# Altium schematic symbol library Schlib1.SchLib: 46 symbols
Pins are listed as number, name and electrical type; pins without a type are passive.

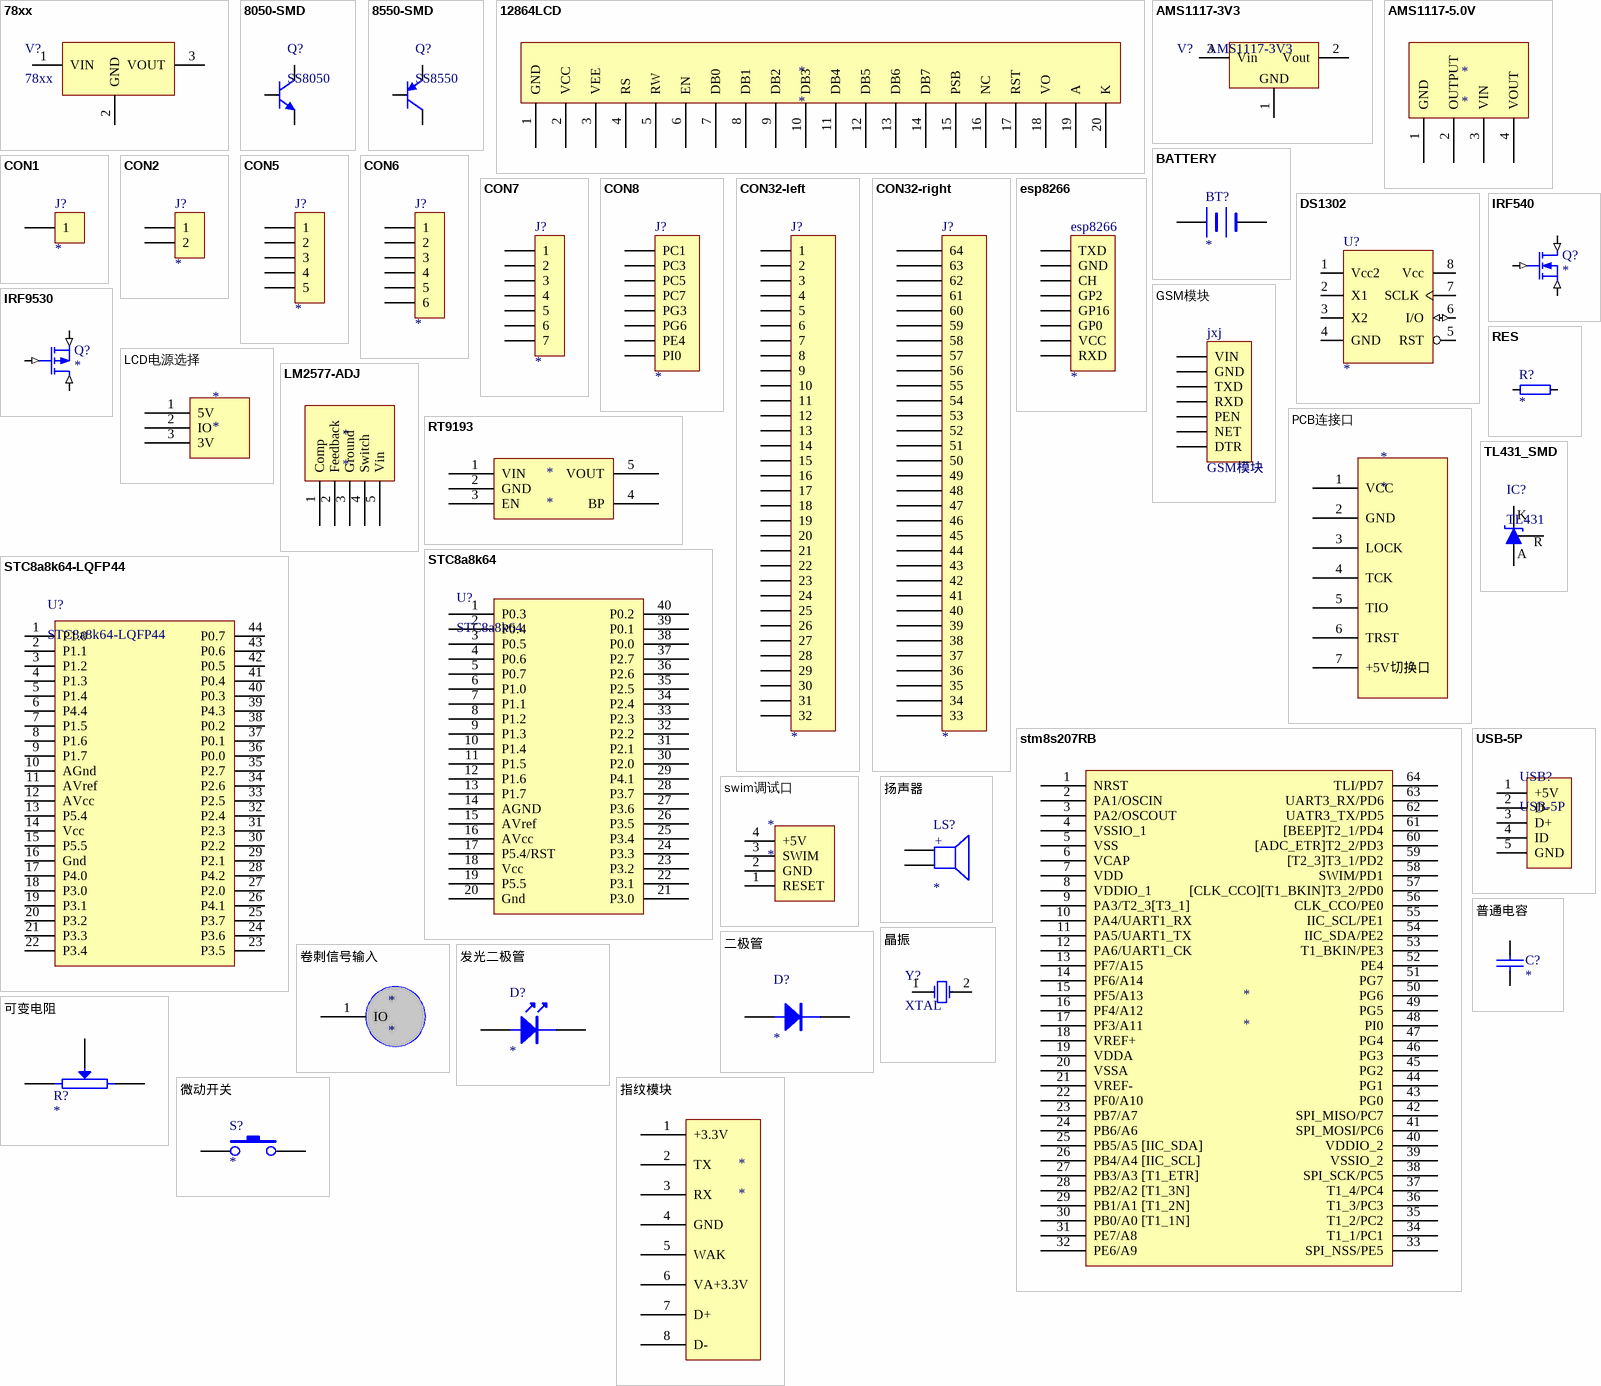
[diagram p0: symbols 78xx to 晶振]

## 78xx
designator V?
线性稳压芯片; 版权归属: 源创客; BOM名称: 线性稳压芯片; 学习资源: www.ooocke.com
footprint TO252 (252晶体管)
footprint TO220A (220，3脚晶体管)
footprint TO220B (220，3脚晶体管)
footprint TO220C (220，3脚晶体管)
pins: 1 VIN, 2 GND, 3 VOUT

## 8050-SMD
designator Q?, comment SS8050
高频放大-NPN型; 版权归属: 源创客; 属性: 40V 1.5A 1W 100MHZ; BOM名称: 高频放大-NPN型; 学习资源: www.ooocke.com
footprint SOT23-3N (3x1.3x1mm(长宽高))
footprint SOT23-3L (3x1.3x1mm(长宽高))
footprint SOT23-3M (3x1.3x1mm(长宽高))
pins: 1 B, 2 E, 3 C

## 8550-SMD
designator Q?, comment SS8550
高频放大-PNP型; 版权归属: 源创客; 属性: 40V 1.5A 1W 100MHZ; BOM名称: 高频放大-PNP型; 学习资源: www.ooocke.com
footprint SOT23-3N (3x1.3x1mm(长宽高))
footprint SOT23-3L (3x1.3x1mm(长宽高))
footprint SOT23-3M (3x1.3x1mm(长宽高))
pins: 1 B, 2 E, 3 C

## 12864LCD
designator *
pins: 1 GND, 2 VCC, 3 VEE, 4 RS, 5 RW, 6 EN, 7 DB0, 8 DB1, 9 DB2, 10 DB3, 11 DB4, 12 DB5, 13 DB6, 14 DB7, 15 PSB, 16 NC, 17 RST, 18 VO, 19 A, 20 K

## AMS1117-3V3
designator V?
三端稳压芯片; BOM名称: 稳压芯片; 版权归属: 源创客; 学习资源: www.ooocke.com
footprint SOT223_L (6.4x7x1.6mm(长宽高))
footprint SOT223_M (6.4x7x1.6mm(长宽高))
footprint SOT223_N (6.4x7x1.6mm(长宽高))
footprint SOT89_L (4.6x4.3x1.6mm(长宽高))
footprint SOT89_N (4.6x4.3x1.6mm(长宽高))
footprint SOT89_M (4.6x4.3x1.6mm(长宽高))
pins: 1 GND, 2 Vout, 3 Vin

## AMS1117-5.0V
designator *
pins: 1 GND, 2 OUTPUT, 3 VIN, 4 VOUT

## BATTERY
designator BT?
Battery
pins: 1 +, 2 -

## CON1
designator J?
Connector
pins: 1

## CON2
designator J?
Connector
pins: 1, 2

## CON5
designator J?
Connector
pins: 1, 2, 3, 4, 5

## CON6
designator J?
Connector
pins: 1, 2, 3, 4, 5, 6

## CON7
designator J?
Connector
pins: 1, 2, 3, 4, 5, 6, 7

## CON8
designator J?
Connector
pins: 1 PC1, 2 PC3, 3 PC5, 4 PC7, 5 PG3, 6 PG6, 7 PE4, 8 PI0

## CON32-left
designator J?
Connector
pins: 1, 2, 3, 4, 5, 6, 7, 8, 9, 10, 11, 12, 13, 14, 15, 16, 17, 18, 19, 20, 21, 22, 23, 24, 25, 26, 27, 28, 29, 30, 31, 32

## CON32-right
designator J?
Connector
pins: 33 "时钟模块-rst线", 34 "时钟模块-rst线", 35 "时钟模块-rst线", 36 "时钟模块-rst线", 37 "时钟模块-rst线", 38 "时钟模块-rst线", 39 "时钟模块-rst线", 40 "时钟模块-rst线", 41 "时钟模块-rst线", 42 "时钟模块-rst线", 43 "时钟模块-rst线", 44 "时钟模块-rst线", 45 "时钟模块-rst线", 46 "时钟模块-rst线", 47 "时钟模块-rst线", 48 "时钟模块-rst线", 49 "时钟模块-rst线", 50 "时钟模块-rst线", 51 "时钟模块-rst线", 52 "时钟模块-rst线", 53 "时钟模块-rst线", 54 "时钟模块-rst线", 55 "时钟模块-rst线", 56 "时钟模块-rst线", 57 "时钟模块-rst线", 58 "时钟模块-rst线", 59 "时钟模块-rst线", 60 "时钟模块-rst线", 61 "时钟模块-rst线", 62 "时钟模块-rst线", 63 "时钟模块-rst线", 64 "时钟模块-rst线"

## DS1302
designator U?
footprint DIP8
pins: 1 Vcc2, 2 X1, 3 X2, 4 GND, 5 RST, 6 I/O (io), 7 SCLK, 8 Vcc

## esp8266
designator esp8266
Connector
pins: 1 TXD, 2 GND, 3 CH, 4 GP2, 5 GP16, 6 GP0, 7 VCC, 8 RXD

## GSM模块
designator jxj
Connector
pins: 1 VIN, 2 GND, 3 TXD, 4 RXD, 5 PEN, 6 NET, 7 DTR

## IRF540
designator Q?
N-Channel MOSFET
simulation model IRF540 (SUBCKT)
pins: 1 G (in), 2 D (in), 3 S (in)
1 alternate drawing of the same symbol

## IRF9530
designator Q?
P-Channel MOSFET
simulation model IRF9530 (SUBCKT)
pins: 1 D (in), 2 G (in), 3 S (in)
1 alternate drawing of the same symbol

## LCD电源选择
designator *
footprint 3pin排针 (排针，3脚)
pins: 1 5V, 2 IO, 3 3V

## LM2577-ADJ
designator *
pins: 1 Comp, 2 Feedback, 3 Ground, 4 Switch, 5 Vin

## PCB连接口
designator *
pins: 1 VCC, 2 GND, 3 LOCK, 4 TCK "时钟模块-时钟线", 5 TIO "时钟模块-数据线", 6 TRST "时钟模块-rst线", 7 +5V切换口 "时钟模块-rst线"

## RES
designator R?
footprint AXIAL0.3
footprint AXIAL0.4
footprint AXIAL0.5
pins: 1, 2

## RT9193
designator *
pins: 1 VIN, 2 GND, 3 EN, 4 BP, 5 VOUT

## STC8a8k64
designator U?
STC单片机; 版权归属: 源创客; BOM名称: STC单片机; 学习资源: www.ooocke.com
footprint DIP40-600 (52*15.2*4mm(长宽高))
pins: 1 P0.3, 2 P0.4, 3 P0.5 "时钟模块-rst线", 4 P0.6 "时钟模块-rst线", 5 P0.7 "时钟模块-rst线", 6 P1.0 "时钟模块-rst线", 7 P1.1 "时钟模块-rst线", 8 P1.2 "时钟模块-rst线", 9 P1.3 "时钟模块-rst线", 10 P1.4 "时钟模块-rst线", 11 P1.5 "时钟模块-rst线", 12 P1.6 "时钟模块-rst线", 13 P1.7 "时钟模块-rst线", 14 AGND "时钟模块-rst线", 15 AVref "时钟模块-rst线", 16 AVcc "时钟模块-rst线", 17 P5.4/RST "时钟模块-rst线", 18 Vcc "时钟模块-rst线", 19 P5.5 "时钟模块-rst线", 20 Gnd "时钟模块-rst线", 21 P3.0 "时钟模块-rst线", 22 P3.1 "时钟模块-rst线", 23 P3.2 "时钟模块-rst线", 24 P3.3 "时钟模块-rst线", 25 P3.4 "时钟模块-rst线", 26 P3.5 "时钟模块-rst线", 27 P3.6 "时钟模块-rst线", 28 P3.7 "时钟模块-rst线", 29 P4.1 "时钟模块-rst线", 30 P2.0 "时钟模块-rst线", 31 P2.1 "时钟模块-rst线", 32 P2.2 "时钟模块-rst线", 33 P2.3 "时钟模块-rst线", 34 P2.4 "时钟模块-rst线", 35 P2.5 "时钟模块-rst线", 36 P2.6 "时钟模块-rst线", 37 P2.7 "时钟模块-rst线", 38 P0.0 "时钟模块-rst线", 39 P0.1 "时钟模块-rst线", 40 P0.2 "时钟模块-rst线"

## STC8a8k64-LQFP44
designator U?
STC单片机
footprint TQFP44-10*10 (10x10mm, 0.8mm(蒜米工坊）)
pins: 1 P1.0 "时钟模块-rst线", 2 P1.1 "时钟模块-rst线", 3 P1.2 "时钟模块-rst线", 4 P1.3 "时钟模块-rst线", 5 P1.4 "时钟模块-rst线", 6 P4.4 "时钟模块-rst线", 7 P1.5 "时钟模块-rst线", 8 P1.6 "时钟模块-rst线", 9 P1.7 "时钟模块-rst线", 10 AGnd "时钟模块-rst线", 11 AVref "时钟模块-rst线", 12 AVcc "时钟模块-rst线", 13 P5.4 "时钟模块-rst线", 14 Vcc "时钟模块-rst线", 15 P5.5 "时钟模块-rst线", 16 Gnd "时钟模块-rst线", 17 P4.0 "时钟模块-rst线", 18 P3.0 "时钟模块-rst线", 19 P3.1 "时钟模块-rst线", 20 P3.2 "时钟模块-rst线", 21 P3.3 "时钟模块-rst线", 22 P3.4 "时钟模块-rst线", 23 P3.5 "时钟模块-rst线", 24 P3.6 "时钟模块-rst线", 25 P3.7 "时钟模块-rst线", 26 P4.1 "时钟模块-rst线", 27 P2.0 "时钟模块-rst线", 28 P4.2 "时钟模块-rst线", 29 P2.1 "时钟模块-rst线", 30 P2.2 "时钟模块-rst线", 31 P2.3 "时钟模块-rst线", 32 P2.4 "时钟模块-rst线", 33 P2.5 "时钟模块-rst线", 34 P2.6 "时钟模块-rst线", 35 P2.7 "时钟模块-rst线", 36 P0.0 "时钟模块-rst线", 37 P0.1 "时钟模块-rst线", 38 P0.2 "时钟模块-rst线", 39 P4.3 "时钟模块-rst线", 40 P0.3 "时钟模块-rst线", 41 P0.4 "时钟模块-rst线", 42 P0.5 "时钟模块-rst线", 43 P0.6 "时钟模块-rst线", 44 P0.7 "时钟模块-rst线"

## stm8s207RB
designator *
pins: 1 NRST, 2 PA1/OSCIN, 3 PA2/OSCOUT, 4 VSSIO_1, 5 VSS, 6 VCAP, 7 VDD, 8 VDDIO_1, 9 PA3/T2_3[T3_1], 10 PA4/UART1_RX, 11 PA5/UART1_TX, 12 PA6/UART1_CK, 13 PF7/A15, 14 PF6/A14, 15 PF5/A13, 16 PF4/A12, 17 PF3/A11, 18 VREF+, 19 VDDA, 20 VSSA, 21 VREF-, 22 PF0/A10, 23 PB7/A7, 24 PB6/A6, 25 PB5/A5 [IIC_SDA], 26 PB4/A4 [IIC_SCL], 27 PB3/A3 [T1_ETR], 28 PB2/A2 [T1_3N], 29 PB1/A1 [T1_2N], 30 PB0/A0 [T1_1N], 31 PE7/A8, 32 PE6/A9, 33 SPI_NSS/PE5, 34 T1_1/PC1, 35 T1_2/PC2, 36 T1_3/PC3, 37 T1_4/PC4, 38 SPI_SCK/PC5, 39 VSSIO_2, 40 VDDIO_2, 41 SPI_MOSI/PC6, 42 SPI_MISO/PC7, 43 PG0, 44 PG1, 45 PG2, 46 PG3, 47 PG4, 48 PI0, 49 PG5, 50 PG6, 51 PG7, 52 PE4, 53 T1_BKIN/PE3, 54 IIC_SDA/PE2, 55 IIC_SCL/PE1, 56 CLK_CCO/PE0, 57 [CLK_CCO][T1_BKIN]T3_2/PD0, 58 SWIM/PD1, 59 [T2_3]T3_1/PD2, 60 [ADC_ETR]T2_2/PD3, 61 [BEEP]T2_1/PD4, 62 UATR3_TX/PD5, 63 UART3_RX/PD6, 64 TLI/PD7

## swim调试口
designator *
pins: 1 RESET, 2 GND, 3 SWIM, 4 +5V

## TL431_SMD
designator IC?, comment TL431
可调基准稳压芯片; 版权归属: 源创客; BOM名称: 可调基准稳压芯片; 学习资源: www.ooocke.com
footprint SOT23-3N (3x1.3x1mm(长宽高))
footprint SOT23-3L (3x1.3x1mm(长宽高))
footprint SOT23-3M (3x1.3x1mm(长宽高))
pins: 1 R, 2 K, 3 A

## USB-5P
designator USB?
微型USB母座; 版权归属: 源创客; BOM名称: 微型USB母座; 学习资源: www.ooocke.com
footprint USB-MICRO_A (micro型USB ，5.9*8.2*2.5mm)
footprint USB-MICRO_B (micro型USB ，5.7*7.8*2.5mm)
footprint USB-MINI-A (MINI型USB，7.9*7.5*4.1mm)
footprint USB-MICRO_C (micro型USB ，5.7*7.8*2.5mm)
footprint USB-MICRO_D (micro型USB ，6.7*7.5*2.5mm)
footprint USB-MICRO_E (micro型USB ，5.9*8.2*2.5mm)
pins: 1 +5V, 2 D-, 3 D+, 4 ID, 5 GND

## 二极管
designator D?
footprint DIODE0.4A
pins: 1, 2

## 卷刺信号输入
designator *
pins: 1 IO

## 发光二极管
designator D?
footprint DIODE0.4A
pins: A 1, K 2

## 可变电阻
designator R?
Potentiometer
footprint VR
pins: 1, 2, 3 W

## 微动开关
designator S?
pins: 1, 2

## 扬声器
designator LS?
pins: 1, 2
text: +

## 指纹模块
designator *
pins: 1 +3.3V, 2 TX, 3 RX, 4 GND, 5 WAK, 6 VA+3.3V, 7 D+, 8 D-

## 普通电容
designator C?
Capacitor
footprint RAD0.1
footprint RAD0.2
footprint RAD0.3
pins: 1, 2

## 晶振
designator Y?, comment XTAL
footprint XTAL
pins: 1, 2

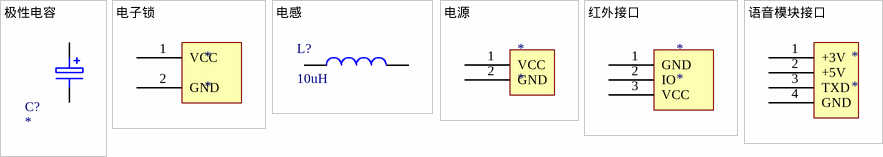
[diagram p1: symbols 极性电容 to 语音模块接口]

## 极性电容
designator C?
footprint RB.1/.2
footprint RB.1/.2A
footprint RB.2/.4
footprint CD4
pins: 1 A, 2 K

## 电子锁
designator *
pins: 1 VCC "12v", 2 GND

## 电感
designator L?, comment 10uH
色环电感; 版权归属: 源创客; BOM名称: 色环电感; 学习资源: www.ooocke.com
footprint AL0204 (9*2*4mm（脚距，直径，长度）)
footprint AL0204_V (3*2*4mm（脚距，直径，长度）)
footprint AL0307 (11*3*7mm（脚距，直径，长度）)
footprint AL0307_V (3.5*3*7mm（脚距，直径，长度）)
footprint AL0410 (15*4*10.5mm（脚距，直径，长度）)
footprint AL0410_V (5*4*10.5mm（脚距，直径，长度）)
footprint AL0510 (16*5*10.5mm（脚距，直径，长度）)
footprint AL0510_V (6*5*10.5mm（脚距，直径，长度）)
pins: 1, 2

## 电源
designator *
pins: 1 VCC, 2 GND

## 红外接口
designator *
pins: 1 GND, 2 IO, 3 VCC

## 语音模块接口
designator *
pins: 1 +3V "时钟模块-rst线", 2 +5V "时钟模块-rst线", 3 TXD "时钟模块-rst线", 4 GND "时钟模块-rst线"